# Altium schematic symbol library ToradexMainBoard-V0I1.SCHLIB: 303 symbols (part 11 of 14)
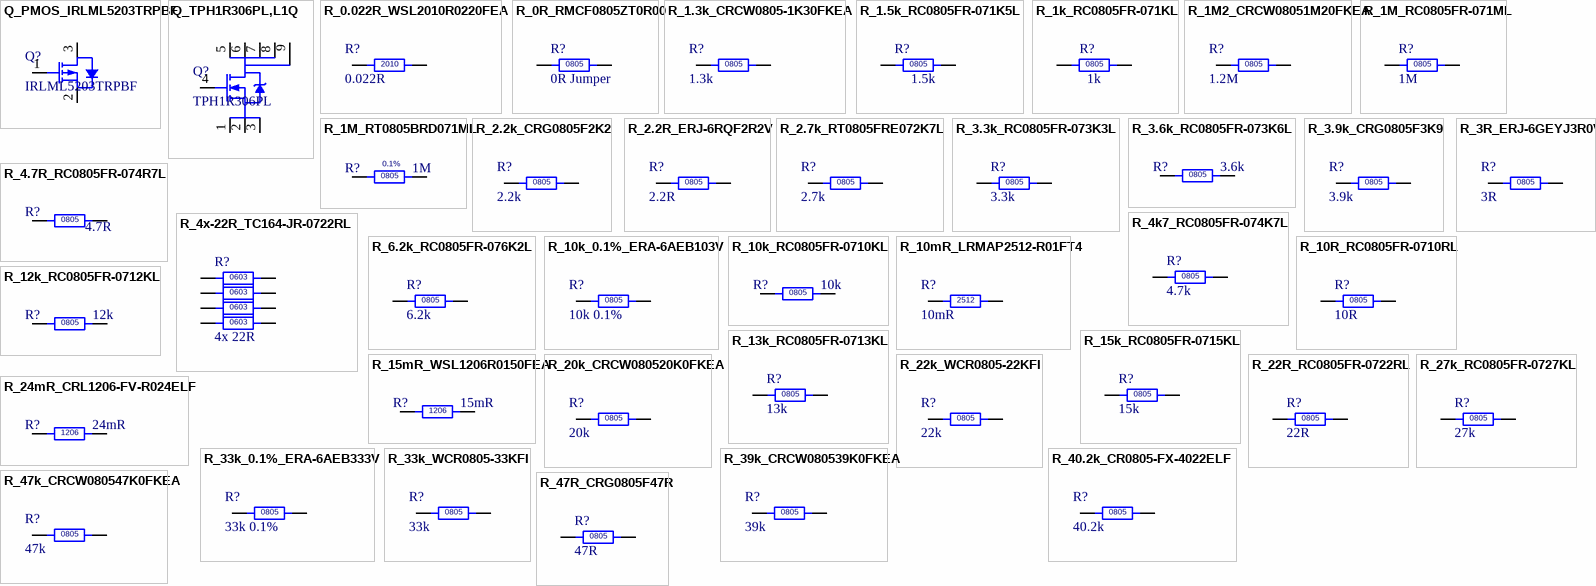
[diagram p25: symbols Q_PMOS_IRLML5203TRPBF to R_47R_CRG0805F47R]

## Q_TPH1R306PL,L1Q
designator Q?, comment TPH1R306PL
X35 Pb-f Power Mosfet Transistor SOP-8-ADV PD=170W F=1MHZ; Manufacturer: Toshiba; Manufacturer Part Number: TPH1R306PL,L1Q; Supplier 1: Digi-Key; RoHS: No; Category: MOSFETs; Stock 1: 54; Pricing 1: 1=1,80000, 10=1,61700, 25=1,52520, 100=1,18950, 250=1,15900, 500=1,00650, 1000=0,85400, 2500=0,84180 (USD); Supplier Part Number 1: 264-TPH1R306PLL1QCT-ND
footprint TPH1R306PL_SOP8 (Toshiba SOP 8 / TPH1R306PL)
pins: 1 S, 2 S, 3 S, 4 G, 5 D, 6 D, 7 D, 8 D, 9 D

## R_0.022R_WSL2010R0220FEA
designator R?, comment 0.022R
Res Metal Strip 2010 0.022 Ohm 1% 1/2W 75ppm/C Molded SMD SMD Embossed Plastic T/R; Manufacturer: Vishay Dale; Manufacturer Part Number: WSL2010R0220FEA; Resistance: 22mR; Power Rating: 500mW; Temperature Coefficient: 75ppm/°C; Supplier 1: Mouser; RoHS: Yes; Category: Chip SMD Resistors; Stock 1: 1942; Mount: Surface Mount; Case/Package: 2010; Case Code (Imperial): 2010; Case Code (Metric): 5025; Contact Plating: Tin,Matte; Min Operating Temperature: -65°C; Max Operating Temperature: 170°C; Resistor Type: Metal Strip; Tolerance: 1%; Packaging: Tape and Reel; Package Quantity: 4000; Termination: SMD/SMT; Length: 5mm; Width: 2.5mm; Height: 0.635mm; Depth: 2.54mm; Radiation Hardening: No; Lead Free: Lead Free; Military Standard: Not; ComponentLink1URL: https://datasheet.ciiva.com/5469/wsl-101914-5469064.pdf?src-supplier=Mouser; ComponentLink1Description: https://datasheet.ciiva.com/5469/wsl-101914-5469064.pdf?src-supplier=Mouser; ComponentLink2URL: https://datasheet.ciiva.com/9028/wsl-9028328.pdf?src-supplier=Avnet; ComponentLink2Description: https://datasheet.ciiva.com/9028/wsl-9028328.pdf?src-supplier=Avnet; Supplier Part Number 1: 71-WSL2010R0220FEA
footprint R2010
pins: 1, 2

## R_0R_RMCF0805ZT0R00
designator R?, comment 0R Jumper
STACKPOLE ELECTRONICS - RMCF0805ZT0R00. - RES THKFLM 0805 0 OHM JUMPER 1/8W 200PPM/ C SMD ROHS COMPLIANT: YES; Resistance: 0mR; Power Rating: 125mW; PCBChecked: initials after Checked; Supplier 1: Digi-Key; Manufacturer Part Number: RMCF0805ZT0R00; RoHS: Yes; Category: Chip SMD Resistors; Mount: Surface Mount; Case/Package: 0805; Case Code (Metric): 2012; Case Code (Imperial): 0805; Contact Plating: Tin,Matte; Min Operating Temperature: -55°C; Max Operating Temperature: 155°C; Packaging: Tape and Reel; Features: Automotive AEC-Q200; Composition: Thick Film; Number of Terminations: 2; Military Standard: Not; Max Power Dissipation: 125mW; Length: 2mm; Height: 0.026inch; Width: 0.049inch; Depth: 1.25mm; Radiation Hardening: No; Lead Free: Lead Free; ComponentLink1URL: https://datasheet.ciiva.com/15193/getdatasheetpartid-360417-15193658.pdf?src-supplier=Verical; ComponentLink1Description: https://datasheet.ciiva.com/15193/getdatasheetpartid-360417-15193658.pdf?src-supplier=Verical; Supplier Part Number 1: RMCF0805ZT0R00CT-ND; Manufacturer: Stackpole Electronics; Stock 1: 361289; IPC7352C: done; SCHChecked: Initials after checked
footprint R0805 (Chip Resistor, 2-Leads, Body 2,00x1,25mm, IPC Medium Density)
pins: 1, 2

## R_1.3k_CRCW0805-1K30FKEA
designator R?, comment 1.3k
Res Thick Film 0805 1.3K Ohm 1% 0.125W(1/8W) ±100ppm/C Molded SMD Automotive Paper T/R; Manufacturer: Vishay; Manufacturer Part Number: CRCW0805-1K30FKEA; Resistance: 1.3kR; Temperature Coefficient: 100ppm/°C; Power Rating: 125mW; Voltage Rating: 150V; Supplier 1: Farnell; RoHS: Yes; Category: Chip SMD Resistors; Mount: Surface Mount; Case/Package: 0805; Number of Pins: 2; Case Code (Metric): 2012; Case Code (Imperial): 0805; Contact Plating: Tin; Weight: 0.000194oz; Min Operating Temperature: -55°C; Max Operating Temperature: 155°C; Tolerance: 1%; Packaging: Tape and Reel; Resistor Type: Thick Film; Termination: SMD/SMT; Number of Terminations: 2; Package Quantity: 10; Voltage Rating (DC): 150V; Max Power Dissipation: 125mW; Features: Automotive AEC-Q200; Length: 2mm; Width: 0.049inch; Height: 0.45mm; Depth: 1.25mm; Radiation Hardening: No; Lead Free: Lead Free; REACH SVHC: Unknown; Military Standard: Not; ComponentLink1URL: https://datasheet.ciiva.com/11810/0900766b80d98b26-11810013.pdf?src-supplier=RSComponents; ComponentLink1Description: https://datasheet.ciiva.com/11810/0900766b80d98b26-11810013.pdf?src-supplier=RSComponents; ComponentLink2URL: https://datasheet.ciiva.com/2525/dcrcwe3-2525908.pdf?src-supplier=Digi-Key; ComponentLink2Description: https://datasheet.ciiva.com/2525/dcrcwe3-2525908.pdf?src-supplier=Digi-Key; ComponentLink3URL: https://datasheet.ciiva.com/2525/dcrcwe3-2525909.pdf?src-supplier=Digi-Key; ComponentLink3Description: https://datasheet.ciiva.com/2525/dcrcwe3-2525909.pdf?src-supplier=Digi-Key; ComponentLink4URL: https://datasheet.ciiva.com/16514/dcrcwe3-16514629.pdf?src-supplier=Avnet+Asia; ComponentLink4Description: https://datasheet.ciiva.com/16514/dcrcwe3-16514629.pdf?src-supplier=Avnet+Asia; ComponentLink5URL: https://datasheet.ciiva.com/2525/dcrcwe3-2525910.pdf?src-supplier=Digi-Key; ComponentLink5Description: https://datasheet.ciiva.com/2525/dcrcwe3-2525910.pdf?src-supplier=Digi-Key; ComponentLink6URL: https://datasheet.ciiva.com/5545/dcrcwe3-109170-5545863.pdf?src-supplier=Mouser; ComponentLink6Description: https://datasheet.ciiva.com/5545/dcrcwe3-109170-5545863.pdf?src-supplier=Mouser; ComponentLink7URL: https://datasheet.ciiva.com/22674/1847332-22674615.pdf?src-supplier=Element14; ComponentLink7Description: https://datasheet.ciiva.com/22674/1847332-22674615.pdf?src-supplier=Element14; ComponentLink8URL: https://datasheet.ciiva.com/7672/1697337-7672600.pdf?src-supplier=Element14; ComponentLink8Description: https://datasheet.ciiva.com/7672/1697337-7672600.pdf?src-supplier=Element14; ComponentLink9URL: https://datasheet.ciiva.com/16396/dcrcwe3-16396104.pdf?src-supplier=Future+Electronics; ComponentLink9Description: https://datasheet.ciiva.com/16396/dcrcwe3-16396104.pdf?src-supplier=Future+Electronics; ComponentLink10URL: https://datasheet.ciiva.com/16787/70201119-16787389.pdf?src-supplier=Allied+Electronics; ComponentLink10Description: https://datasheet.ciiva.com/16787/70201119-16787389.pdf?src-supplier=Allied+Electronics; ComponentLink11URL: https://datasheet.ciiva.com/26312/fld-crcw-e3-data-en-26312925.pdf?src-supplier=Distrelec; ComponentLink11Description: https://datasheet.ciiva.com/26312/fld-crcw-e3-data-en-26312925.pdf?src-supplier=Distrelec; ComponentLink12URL: https://datasheet.ciiva.com/7672/1533075-7672702.pdf?src-supplier=Element14; ComponentLink12Description: https://datasheet.ciiva.com/7672/1533075-7672702.pdf?src-supplier=Element14; ComponentLink13URL: https://datasheet.ciiva.com/8337/dcrcwe3-8337647.pdf?src-supplier=Avnet; ComponentLink13Description: https://datasheet.ciiva.com/8337/dcrcwe3-8337647.pdf?src-supplier=Avnet; Supplier Part Number 1: 2320175
footprint R0805
pins: 1, 2

## R_1.5k_RC0805FR-071K5L
designator R?, comment 1.5k
Res Thick Film 0805 1.5K Ohm 1% 0.125W(1/8W) ±100ppm/C Molded SMD Paper T/R; Manufacturer: Yageo; Manufacturer Part Number: RC0805FR-071K5L; Resistance: 1.5kR; Temperature Coefficient: 100ppm/°C; Power Rating: 125mW; Voltage Rating: 150V; Supplier 1: Digi-Key; RoHS: Yes; Category: Chip SMD Resistors; Stock 1: 1215833; Pricing 1: 1=0,10000, 10=0,04000, 100=0,01630, 1000=0,00731, 2500=0,00635 (USD); Case/Package: 0805; Case Code (Imperial): 0805; Case Code (Metric): 2012; Min Operating Temperature: -55°C; Max Operating Temperature: 155°C; Tolerance: 1%; Packaging: Tape and Reel; Composition: Thick Film; Package Quantity: 5000; Termination: SMD/SMT; Length: 2mm; Height: 0.5mm; Width: 1.25mm; Depth: 1.25mm; REACH SVHC: Unknown; Lead Free: Lead Free; ComponentLink1URL: https://datasheet.ciiva.com/17423/rc0805-17423247.pdf?src-supplier=Future+Electronics; ComponentLink1Description: https://datasheet.ciiva.com/17423/rc0805-17423247.pdf?src-supplier=Future+Electronics; Supplier Part Number 1: 311-1.50KCRCT-ND
footprint R0805 (Chip Resistor, 2-Leads, Body 2,00x1,25mm, IPC Medium Density)
pins: 1, 2

## R_1k_RC0805FR-071KL
designator R?, comment 1k
RESISTOR, 0805 1K 1%, FULL REEL; Product Range:YAGEO - RC Series; Resistance:1kohm; Power Rating:125mW; Resistance Tolerance:± 1%; Resistor Case Style:0805 [2012 Metric]; Resistor Element Material:Thick Film; Temperature Coefficient:± 250ppm/°C; Voltage Rating:150V; Packaging:Tape & Reel; MSL:-; SVHC:No SVHC (16-Dec-2013); External Depth:0.55mm; External Length / Height:2mm; External Width:1.25mm; No. of Pins:2; Operating Temperature Max:155°C; Operating Temperature Min:-55°C; Operating Temperature Range:-55°C to +155°C; Reel Quantity:5000; Resistor Mounting:SMD; Series:RC12H; Temperature Coef; Manufacturer Part Number: RC0805FR-071KL; Manufacturer: Yageo; Temperature Coefficient: 100ppm/°C; Resistance: 1kR; Power Rating: 125mW; Voltage Rating: 150V; PCBChecked: initials after Checked; Supplier 1: Digi-Key; RoHS: Yes; Category: Chip SMD Resistors; Case/Package: 0805; Number of Pins: 2; Case Code (Metric): 2012; Case Code (Imperial): 0805; Min Operating Temperature: -55°C; Max Operating Temperature: 155°C; Tolerance: 1%; Packaging: Tape and Reel; Features: Moisture Resistant; Max Power Dissipation: 125mW; Package Quantity: 1; Voltage Rating (DC): 150V; Composition: Thick Film; Number of Terminations: 2; Termination: SMD/SMT; Military Standard: Not; Length: 0.079inch; Height: 0.024inch; Width: 0.049inch; Depth: 1.25mm; Lead Free: Lead Free; REACH SVHC: Unknown; ComponentLink1URL: https://datasheet.ciiva.com/2456/pyu-r-int-thick-7-2456976.pdf?src-supplier=Digi-Key; ComponentLink1Description: https://datasheet.ciiva.com/2456/pyu-r-int-thick-7-2456976.pdf?src-supplier=Digi-Key; ComponentLink2URL: https://datasheet.ciiva.com/2456/pyu-r-int-thick-7-2456977.pdf?src-supplier=Digi-Key; ComponentLink2Description: https://datasheet.ciiva.com/2456/pyu-r-int-thick-7-2456977.pdf?src-supplier=Digi-Key; ComponentLink3URL: https://datasheet.ciiva.com/7941/1686128-7941719.pdf?src-supplier=Element14; ComponentLink3Description: https://datasheet.ciiva.com/7941/1686128-7941719.pdf?src-supplier=Element14; ComponentLink4URL: https://datasheet.ciiva.com/16850/rc0805-16850409.pdf?src-supplier=Future+Electronics; ComponentLink4Description: https://datasheet.ciiva.com/16850/rc0805-16850409.pdf?src-supplier=Future+Electronics; ComponentLink5URL: https://datasheet.ciiva.com/46385/444164-46385020.pdf?src-supplier=Element14; ComponentLink5Description: https://datasheet.ciiva.com/46385/444164-46385020.pdf?src-supplier=Element14; ComponentLink6URL: https://datasheet.ciiva.com/2456/pyu-r-int-thick-7-2456975.pdf?src-supplier=Digi-Key; ComponentLink6Description: https://datasheet.ciiva.com/2456/pyu-r-int-thick-7-2456975.pdf?src-supplier=Digi-Key; Supplier Part Number 1: 311-1.00KCRCT-ND; Stock 1: 23230285; IPC7352C: done; SCHChecked: Initials after checked
footprint R0805 (Chip Resistor, 2-Leads, Body 2,00x1,25mm, IPC Medium Density)
pins: 1, 2

## R_1M2_CRCW08051M20FKEA
designator R?, comment 1.2M
Res Thick Film 0805 1.2M Ohm 1% 1/8W 100ppm/C Molded SMD SMD Paper T/R; Manufacturer: Vishay; Manufacturer Part Number: CRCW08051M20FKEA; Resistance: 1.2MR; Temperature Coefficient: 100ppm/°C; Voltage Rating: 150V; Power Rating: 125mW; Supplier 1: Farnell; RoHS: Yes; Category: Chip SMD Resistors; Stock 1: 4852; Pricing 1: 10=0,07020, 100=0,02810, 500=0,01960, 1000=0,01100, 2500=0,00860, 5000=0,00610, 25000=0,00540 (EUR); Case/Package: 0805; Number of Pins: 2; Contact Plating: Tin; Weight: 0.000194oz; Case Code (Metric): 2012; Case Code (Imperial): 0805; Min Operating Temperature: -55°C; Max Operating Temperature: 155°C; Resistor Type: Thick Film; Tolerance: 1%; Packaging: Tape and Reel; Package Quantity: 10; Number of Terminations: 2; Termination: SMD/SMT; Max Power Dissipation: 125mW; Voltage Rating (DC): 150V; Features: Automotive AEC-Q200; Length: 2mm; Width: 0.049inch; Height: 0.45mm; Depth: 1.25mm; Radiation Hardening: No; REACH SVHC: Unknown; Military Standard: Not; Lead Free: Lead Free; ComponentLink1URL: https://datasheet.ciiva.com/11818/0900766b80d98b26-11818217.pdf?src-supplier=RSComponents; ComponentLink1Description: https://datasheet.ciiva.com/11818/0900766b80d98b26-11818217.pdf?src-supplier=RSComponents; ComponentLink2URL: https://datasheet.ciiva.com/2495/dcrcwe3-2495986.pdf?src-supplier=Digi-Key; ComponentLink2Description: https://datasheet.ciiva.com/2495/dcrcwe3-2495986.pdf?src-supplier=Digi-Key; ComponentLink3URL: https://datasheet.ciiva.com/2495/dcrcwe3-2495987.pdf?src-supplier=Digi-Key; ComponentLink3Description: https://datasheet.ciiva.com/2495/dcrcwe3-2495987.pdf?src-supplier=Digi-Key; ComponentLink4URL: https://datasheet.ciiva.com/2495/dcrcwe3-2495988.pdf?src-supplier=Digi-Key; ComponentLink4Description: https://datasheet.ciiva.com/2495/dcrcwe3-2495988.pdf?src-supplier=Digi-Key; ComponentLink5URL: https://datasheet.ciiva.com/22708/1697337-22708360.pdf?src-supplier=Element14; ComponentLink5Description: https://datasheet.ciiva.com/22708/1697337-22708360.pdf?src-supplier=Element14; ComponentLink6URL: https://datasheet.ciiva.com/7670/1697337-7670589.pdf?src-supplier=Element14; ComponentLink6Description: https://datasheet.ciiva.com/7670/1697337-7670589.pdf?src-supplier=Element14; ComponentLink7URL: https://datasheet.ciiva.com/7670/1697337-7670590.pdf?src-supplier=Element14; ComponentLink7Description: https://datasheet.ciiva.com/7670/1697337-7670590.pdf?src-supplier=Element14; ComponentLink8URL: https://datasheet.ciiva.com/17204/dcrcwe3-17204094.pdf?src-supplier=Avnet+Europe; ComponentLink8Description: https://datasheet.ciiva.com/17204/dcrcwe3-17204094.pdf?src-supplier=Avnet+Europe; ComponentLink9URL: https://datasheet.ciiva.com/9105/dcrcwe3-9105455.pdf?src-supplier=Avnet; ComponentLink9Description: https://datasheet.ciiva.com/9105/dcrcwe3-9105455.pdf?src-supplier=Avnet; Supplier Part Number 1: 2139128
footprint R0805
pins: 1, 2

## R_1M_RC0805FR-071ML
designator R?, comment 1M
Res Thick Film 0805 1M Ohm 1% 0.125W(1/8W) ±100ppm/C Epoxy SMD T/R; Manufacturer: Yageo; Manufacturer Part Number: RC0805FR-071ML; Temperature Coefficient: 100ppm/°C; Resistance: 1MR; Power Rating: 125mW; Voltage Rating: 150V; RoHS: Yes; Category: Chip SMD Resistors; Case/Package: 0805; Case Code (Metric): 2012; Case Code (Imperial): 0805; Min Operating Temperature: -55°C; Max Operating Temperature: 155°C; Composition: Thick Film; Tolerance: 1%; Packaging: Tape and Reel; Number of Terminations: 2; Termination: SMD/SMT; Military Standard: Not; Max Power Dissipation: 125mW; Features: Moisture Resistant; Package Quantity: 1; Length: 0.079inch; Height: 0.024inch; Width: 0.049inch; Depth: 1.25mm; REACH SVHC: Unknown; Lead Free: Lead Free; ComponentLink1URL: https://datasheet.ciiva.com/2519/pyu-r-int-thick-7-2519712.pdf?src-supplier=Digi-Key; ComponentLink1Description: https://datasheet.ciiva.com/2519/pyu-r-int-thick-7-2519712.pdf?src-supplier=Digi-Key; ComponentLink2URL: https://datasheet.ciiva.com/12666/rc0805-12666975.pdf?src-supplier=Mouser; ComponentLink2Description: https://datasheet.ciiva.com/12666/rc0805-12666975.pdf?src-supplier=Mouser; ComponentLink3URL: https://datasheet.ciiva.com/2519/pyu-r-int-thick-7-2519713.pdf?src-supplier=Digi-Key; ComponentLink3Description: https://datasheet.ciiva.com/2519/pyu-r-int-thick-7-2519713.pdf?src-supplier=Digi-Key; ComponentLink4URL: https://datasheet.ciiva.com/2519/pyu-r-int-thick-7-2519711.pdf?src-supplier=Digi-Key; ComponentLink4Description: https://datasheet.ciiva.com/2519/pyu-r-int-thick-7-2519711.pdf?src-supplier=Digi-Key; ComponentLink5URL: https://datasheet.ciiva.com/17419/rc0805-17419909.pdf?src-supplier=Future+Electronics; ComponentLink5Description: https://datasheet.ciiva.com/17419/rc0805-17419909.pdf?src-supplier=Future+Electronics; Stock 2: 3286221; Pricing 2: 1=0,10000, 10=0,04000, 100=0,01630, 1000=0,00731, 2500=0,00635 (USD); Mount: Surface Mount; Number of Pins: 2; Voltage Rating (DC): 150V; ComponentLink6URL: http://www.farnell.com/datasheets/2167052.pdf?src-supplier=Farnell; ComponentLink6Description: http://www.farnell.com/datasheets/2167052.pdf?src-supplier=Farnell; ComponentLink7URL: http://www.mouser.com/ds/2/447/Yageo_08112016_RC0805-968729.pdf?src-supplier=Mouser; ComponentLink7Description: http://www.mouser.com/ds/2/447/Yageo_08112016_RC0805-968729.pdf?src-supplier=Mouser; ComponentLink8URL: http://www.farnell.com/datasheets/444164.pdf?src-supplier=Element14; ComponentLink8Description: http://www.farnell.com/datasheets/444164.pdf?src-supplier=Element14; ComponentLink9URL: http://www.farnell.com/datasheets/2167052.pdf?src-supplier=Newark; ComponentLink9Description: http://www.farnell.com/datasheets/2167052.pdf?src-supplier=Newark; ComponentLink10URL: http://www.yageo.com/documents/recent/PYu-RC_Group_51_RoHS_L_10.pdf?src-supplier=Digi-Key; ComponentLink10Description: http://www.yageo.com/documents/recent/PYu-RC_Group_51_RoHS_L_10.pdf?src-supplier=Digi-Key; Supplier 1: Digi-Key; Supplier Part Number 1: 311-1.00MCRCT-ND
footprint R0805 (Chip Resistor, 2-Leads, Body 2,00x1,25mm, IPC Medium Density)
pins: 1, 2

## R_1M_RT0805BRD071ML
designator R?, comment 1M
Res Thin Film 0805 1M Ohm 0.1% 0.125W(1/8W) ±25ppm/C Epoxy Pad SMD T/R; Manufacturer: Yageo; Manufacturer Part Number: RT0805BRD071ML; Resistance: 1MR; Power Rating: 125mW; Voltage Rating: 150V; Temperature Coefficient: 25ppm/°C; Supplier 1: Mouser; RoHS: Yes; Category: Chip SMD Resistors; Stock 1: 4533; Pricing 1: 1=0,44000, 10=0,31300, 100=0,12500, 1000=0,05700, 5000=0,04700, 10000=0,04500 (USD); Case/Package: 0805; Weight: 0.000194oz; Case Code (Imperial): 0805; Case Code (Metric): 2012; Min Operating Temperature: -55°C; Max Operating Temperature: 125°C; Tolerance: 0.1%; Packaging: Tape and Reel; Package Quantity: 5000; Composition: Thin Film; Termination: SMD/SMT; Number of Terminations: 2; Military Standard: Not; Max Power Dissipation: 125mW; Voltage Rating (DC): 150V; Features: Moisture Resistant; Length: 2mm; Height: 0.024inch; Width: 1.25mm; Depth: 1.25mm; Lead Free: Lead Free; ComponentLink1URL: https://datasheet.ciiva.com/12836/pyu-rt-1-to-0-05-rohs-l-4-12836442.pdf?src-supplier=Mouser; ComponentLink1Description: https://datasheet.ciiva.com/12836/pyu-rt-1-to-0-05-rohs-l-4-12836442.pdf?src-supplier=Mouser; ComponentLink2URL: https://datasheet.ciiva.com/46635/pyu-rt-1-to-0-05-rohs-l-5-46635036.pdf?src-supplier=Digi-Key; ComponentLink2Description: https://datasheet.ciiva.com/46635/pyu-rt-1-to-0-05-rohs-l-5-46635036.pdf?src-supplier=Digi-Key; ComponentLink3URL: https://datasheet.ciiva.com/2584/pyu-rt-1-to-0-05-rohs-l-4-2584829.pdf?src-supplier=Digi-Key; ComponentLink3Description: https://datasheet.ciiva.com/2584/pyu-rt-1-to-0-05-rohs-l-4-2584829.pdf?src-supplier=Digi-Key; Supplier Part Number 1: 603-RT0805BRD071ML
footprint R0805 (Chip Resistor, 2-Leads, Body 2,00x1,25mm, IPC Medium Density)
pins: 1, 2

## R_2.2k_CRG0805F2K2
designator R?, comment 2.2k
Thick Film Resistors 2.2KOhms 1/8W 150V; Manufacturer: TE Connectivity; Manufacturer Part Number: CRG0805F2K2; Resistance: 2.2kR; Tolerance: 1%; Temperature Coefficient: 100ppm/°C; Power Rating: 125mW; Number of Resistors: 1; Supplier 1: Farnell; RoHS: Yes; Category: Chip SMD Resistors; Stock 1: 75000; Pricing 1: 5000=0,00530, 25000=0,00420 (EUR); Mount: Surface Mount; Case/Package: 0805; Case Code (Imperial): 0805; Case Code (Metric): 2012; Weight: 0.000194oz; Min Operating Temperature: -55°C; Max Operating Temperature: 125°C; Resistor Type: Thick Film; Packaging: Tape and Reel; Package Quantity: 5000; Number of Terminations: 2; Series: CRG; Voltage Rating: 150V; Termination: Solder; Technology: THICK FILM; Length: 2mm; Width: 1.25mm; Height: 0.55mm; Depth: 1.25mm; Radiation Hardening: No; RoHS Compliant: Yes; ELV: Compliant; ComponentLink1URL: https://datasheet.ciiva.com/11809/0900766b800a696e-11809606.pdf?src-supplier=RSComponents; ComponentLink1Description: https://datasheet.ciiva.com/11809/0900766b800a696e-11809606.pdf?src-supplier=RSComponents; ComponentLink2URL: https://datasheet.ciiva.com/5547/eng-ds-1773204-g-5547934.pdf?src-supplier=Mouser; ComponentLink2Description: https://datasheet.ciiva.com/5547/eng-ds-1773204-g-5547934.pdf?src-supplier=Mouser; Supplier Part Number 1: 3133466
footprint R0805
pins: 1, 2

## R_2.2R_ERJ-6RQF2R2V
designator R?, comment 2.2R
RES SMD 2.2 OHM 1% 1/8W 0805; Manufacturer: Panasonic; Manufacturer Part Number: ERJ-6RQF2R2V; Temperature Coefficient: 200ppm/°C; Max Power Dissipation: 125mW; Supplier 1: Mouser; RoHS: Yes; Category: Chip SMD Resistors; Stock 1: 19035; Mount: Surface Mount; Case/Package: 0805; Number of Pins: 2; Case Code (Metric): 2012; Case Code (Imperial): 0805; Contact Plating: Tin; Min Operating Temperature: -55°C; Max Operating Temperature: 125°C; Packaging: Tape and Reel; Tolerance: 1%; Resistor Type: Thick Film; Resistance: 2.2R; Number of Terminations: 2; Power Rating: 125mW; Package Quantity: 5000; Features: Automotive AEC-Q200; Termination: SMD/SMT; Length: 2mm; Width: 0.049inch; Height: 0.6mm; Depth: 1.25mm; Radiation Hardening: No; Lead Free: Lead Free; Military Standard: Not; REACH SVHC: No SVHC; ComponentLink1URL: https://datasheet.ciiva.com/11818/0900766b80eefa12-11818460.pdf?src-supplier=RSComponents; ComponentLink1Description: https://datasheet.ciiva.com/11818/0900766b80eefa12-11818460.pdf?src-supplier=RSComponents; ComponentLink2URL: https://datasheet.ciiva.com/5868/391509-5868213.pdf?src-supplier=Farnell; ComponentLink2Description: https://datasheet.ciiva.com/5868/391509-5868213.pdf?src-supplier=Farnell; ComponentLink3URL: https://datasheet.ciiva.com/5868/391509-5868214.pdf?src-supplier=Farnell; ComponentLink3Description: https://datasheet.ciiva.com/5868/391509-5868214.pdf?src-supplier=Farnell; ComponentLink4URL: https://datasheet.ciiva.com/46436/391509-46436806.pdf?src-supplier=Element14; ComponentLink4Description: https://datasheet.ciiva.com/46436/391509-46436806.pdf?src-supplier=Element14; ComponentLink5URL: https://datasheet.ciiva.com/9197/aoa0000ce3-9197271.pdf?src-supplier=Avnet; ComponentLink5Description: https://datasheet.ciiva.com/9197/aoa0000ce3-9197271.pdf?src-supplier=Avnet; ComponentLink6URL: https://datasheet.ciiva.com/24055/aoa0000ce3-72189-24055615.pdf?src-supplier=Mouser; ComponentLink6Description: https://datasheet.ciiva.com/24055/aoa0000ce3-72189-24055615.pdf?src-supplier=Mouser; Supplier Part Number 1: 667-ERJ-6RQF2R2V
footprint R0805
pins: 1, 2

## R_2.7k_RT0805FRE072K7L
designator R?, comment 2.7k
YAGEO (PHYCOMP)   RT0805FRE072K7L   Surface Mount Chip Resistor, Thin Film, RT Series, 2.7 kohm, 125 mW,  1%, 150 V; Resistance: 2.7kR; Temperature Coefficient: 50ppm/°C; Power Rating: 125mW; Voltage Rating: 150V; Supplier 1: Farnell; Manufacturer: Yageo; Manufacturer Part Number: RT0805FRE072K7L; RoHS: Yes; Category: Chip SMD Resistors; Stock 1: 4023; Pricing 1: 10=0,11500, 100=0,03970, 500=0,03190, 1000=0,02410 (EUR); Case/Package: 0805; Contact Plating: Tin,Matte; Case Code (Metric): 2012; Case Code (Imperial): 0805; Min Operating Temperature: -55°C; Max Operating Temperature: 125°C; Tolerance: 1%; Resistor Type: Thin Film; Package Quantity: 5000; Packaging: Tape and Reel; Number of Terminations: 2; Max Power Dissipation: 125mW; Voltage Rating (DC): 150V; Series: RT; Resistance Tolerance: 1%; Construction: Rectangular; Length: 0.079inch; Width: 0.049inch; Height: 0.024inch; Depth: 1.25mm; Radiation Hardening: No; REACH SVHC: Unknown; Military Standard: Not; Lead Free: Lead Free; RoHS Compliant: Yes; ComponentLink1URL: https://datasheet.ciiva.com/2561/pyu-rt-1-to-0-05-rohs-l-5-2561137.pdf?src-supplier=Digi-Key; ComponentLink1Description: https://datasheet.ciiva.com/2561/pyu-rt-1-to-0-05-rohs-l-5-2561137.pdf?src-supplier=Digi-Key; ComponentLink2URL: https://datasheet.ciiva.com/7942/1392914-7942127.pdf?src-supplier=Element14; ComponentLink2Description: https://datasheet.ciiva.com/7942/1392914-7942127.pdf?src-supplier=Element14; Supplier Part Number 1: 1500699
footprint R0805 (Chip Resistor, 2-Leads, Body 2,00x1,25mm, IPC Medium Density)
pins: 1, 2

## R_3.3k_RC0805FR-073K3L
designator R?, comment 3.3k
Res Thick Film 0805 3.3K Ohm 1% 0.125W(1/8W) ±100ppm/C Epoxy Pad SMD T/R; Manufacturer: Yageo; Manufacturer Part Number: RC0805FR-073K3L; Resistance: 3.3kR; Temperature Coefficient: 100ppm/°C; Power Rating: 125mW; Voltage Rating: 150V; Supplier 1: Digi-Key; RoHS: Yes; Category: Chip SMD Resistors; Stock 1: 73579; Pricing 1: 1=0,10000, 10=0,04000, 100=0,01630, 1000=0,00731, 2500=0,00635 (USD); Case/Package: 0805; Weight: 0.000194oz; Case Code (Metric): 2012; Case Code (Imperial): 0805; Min Operating Temperature: -55°C; Max Operating Temperature: 155°C; Tolerance: 1%; Packaging: Tape and Reel; Composition: Thick Film; Number of Terminations: 2; Termination: SMD/SMT; Package Quantity: 1; Features: Moisture Resistant; Max Power Dissipation: 125mW; Length: 2mm; Height: 0.5mm; Width: 0.049inch; Depth: 1.25mm; Lead Free: Lead Free; REACH SVHC: No SVHC; ComponentLink1URL: https://datasheet.ciiva.com/7941/444164-7941782.pdf?src-supplier=Element14; ComponentLink1Description: https://datasheet.ciiva.com/7941/444164-7941782.pdf?src-supplier=Element14; ComponentLink2URL: https://datasheet.ciiva.com/7941/444164-7941783.pdf?src-supplier=Element14; ComponentLink2Description: https://datasheet.ciiva.com/7941/444164-7941783.pdf?src-supplier=Element14; ComponentLink3URL: https://datasheet.ciiva.com/2457/pyu-r-int-thick-7-2457992.pdf?src-supplier=Digi-Key; ComponentLink3Description: https://datasheet.ciiva.com/2457/pyu-r-int-thick-7-2457992.pdf?src-supplier=Digi-Key; ComponentLink4URL: https://datasheet.ciiva.com/2457/pyu-r-int-thick-7-2457994.pdf?src-supplier=Digi-Key; ComponentLink4Description: https://datasheet.ciiva.com/2457/pyu-r-int-thick-7-2457994.pdf?src-supplier=Digi-Key; ComponentLink5URL: https://datasheet.ciiva.com/16747/rc0805-16747115.pdf?src-supplier=Future+Electronics; ComponentLink5Description: https://datasheet.ciiva.com/16747/rc0805-16747115.pdf?src-supplier=Future+Electronics; ComponentLink6URL: https://datasheet.ciiva.com/46447/444164-46447579.pdf?src-supplier=Element14; ComponentLink6Description: https://datasheet.ciiva.com/46447/444164-46447579.pdf?src-supplier=Element14; ComponentLink7URL: https://datasheet.ciiva.com/2457/pyu-r-int-thick-7-2457993.pdf?src-supplier=Digi-Key; ComponentLink7Description: https://datasheet.ciiva.com/2457/pyu-r-int-thick-7-2457993.pdf?src-supplier=Digi-Key; ComponentLink8URL: https://datasheet.ciiva.com/12577/rc0805-12577341.pdf?src-supplier=Mouser; ComponentLink8Description: https://datasheet.ciiva.com/12577/rc0805-12577341.pdf?src-supplier=Mouser; Supplier Part Number 1: 311-3.30KCRCT-ND
footprint R0805 (Chip Resistor, 2-Leads, Body 2,00x1,25mm, IPC Medium Density)
pins: 1, 2

## R_3.6k_RC0805FR-073K6L
designator R?, comment 3.6k
RES SMD 3.6K OHM 1% 1/8W 0805; Manufacturer: Yageo; Manufacturer Part Number: RC0805FR-073K6L; Resistance: 3.6kR; Power Rating: 125mW; Temperature Coefficient: 100ppm/°C; Voltage Rating: 150V; Supplier 1: Digi-Key; RoHS: Yes; Category: Chip SMD Resistors; Stock 1: 49048; Pricing 1: 1=0,10000, 10=0,04000, 100=0,01630, 1000=0,00731, 2500=0,00635 (USD); Mount: Surface Mount; Case/Package: 0805; Case Code (Metric): 2012; Case Code (Imperial): 0805; Min Operating Temperature: -55°C; Max Operating Temperature: 155°C; Tolerance: 1%; Packaging: Tape and Reel; Composition: Thick Film; Termination: SMD/SMT; Voltage Rating (DC): 150V; Max Power Dissipation: 125mW; Number of Terminations: 2; Military Standard: Not; Package Quantity: 1; Features: Moisture Resistant; Length: 2mm; Height: 0.5mm; Width: 0.049inch; Depth: 1.25mm; Lead Free: Lead Free; ComponentLink1URL: https://datasheet.ciiva.com/11819/0900766b8106beab-11819852.pdf?src-supplier=RSComponents; ComponentLink1Description: https://datasheet.ciiva.com/11819/0900766b8106beab-11819852.pdf?src-supplier=RSComponents; ComponentLink2URL: https://datasheet.ciiva.com/15189/getdatasheetpartid-327996-15189964.pdf?src-supplier=Verical; ComponentLink2Description: https://datasheet.ciiva.com/15189/getdatasheetpartid-327996-15189964.pdf?src-supplier=Verical; ComponentLink3URL: https://datasheet.ciiva.com/2509/pyu-r-int-thick-7-2509501.pdf?src-supplier=Digi-Key; ComponentLink3Description: https://datasheet.ciiva.com/2509/pyu-r-int-thick-7-2509501.pdf?src-supplier=Digi-Key; ComponentLink4URL: https://datasheet.ciiva.com/2509/pyu-r-int-thick-7-2509502.pdf?src-supplier=Digi-Key; ComponentLink4Description: https://datasheet.ciiva.com/2509/pyu-r-int-thick-7-2509502.pdf?src-supplier=Digi-Key; ComponentLink5URL: https://datasheet.ciiva.com/17041/rc0805-17041166.pdf?src-supplier=Future+Electronics; ComponentLink5Description: https://datasheet.ciiva.com/17041/rc0805-17041166.pdf?src-supplier=Future+Electronics; ComponentLink6URL: https://datasheet.ciiva.com/2509/pyu-r-int-thick-7-2509503.pdf?src-supplier=Digi-Key; ComponentLink6Description: https://datasheet.ciiva.com/2509/pyu-r-int-thick-7-2509503.pdf?src-supplier=Digi-Key; Supplier Part Number 1: 311-3.60KCRCT-ND
footprint R0805 (Chip Resistor, 2-Leads, Body 2,00x1,25mm, IPC Medium Density)
pins: 1, 2

## R_3.9k_CRG0805F3K9
designator R?, comment 3.9k
Res Thick Film 0805 3.9K Ohm 1% 0.125W(1/8W) ±100ppm/C Pad SMD T/R; Manufacturer: TE Connectivity; Manufacturer Part Number: CRG0805F3K9; Resistance: 3.9kR; Temperature Coefficient: 100ppm/°C; Power Rating: 125mW; Voltage Rating: 150V; Number of Resistors: 1; Supplier 1: Farnell; RoHS: Yes; Category: Chip SMD Resistors; Stock 1: 45000; Pricing 1: 5000=0,00470, 25000=0,00360 (EUR); Mount: Surface Mount; Case/Package: 0805; Case Code (Imperial): 0805; Case Code (Metric): 2012; Weight: 0.000194oz; Min Operating Temperature: -55°C; Max Operating Temperature: 125°C; Tolerance: 1%; Packaging: Tape and Reel; Resistor Type: Thick Film; Package Quantity: 5000; Number of Terminations: 2; Series: CRG; Termination: Solder; Technology: THICK FILM; Length: 2mm; Width: 1.25mm; Height: 0.55mm; Depth: 1.25mm; RoHS Compliant: Yes; ELV: Compliant; ComponentLink1URL: https://datasheet.ciiva.com/11809/0900766b800a696e-11809949.pdf?src-supplier=RSComponents; ComponentLink1Description: https://datasheet.ciiva.com/11809/0900766b800a696e-11809949.pdf?src-supplier=RSComponents; ComponentLink2URL: https://datasheet.ciiva.com/16756/70063020-16756103.pdf?src-supplier=Allied+Electronics; ComponentLink2Description: https://datasheet.ciiva.com/16756/70063020-16756103.pdf?src-supplier=Allied+Electronics; ComponentLink3URL: https://datasheet.ciiva.com/24357/eng-ds-1773204-e-24357415.pdf?src-supplier=Onlinecomponents.com; ComponentLink3Description: https://datasheet.ciiva.com/24357/eng-ds-1773204-e-24357415.pdf?src-supplier=Onlinecomponents.com; Supplier Part Number 1: 3133470
footprint R0805
pins: 1, 2

## R_3R_ERJ-6GEYJ3R0V
designator R?, comment 3R
Res Thick Film 0805 3 Ohm 5% 1/8W -100ppm/°C to 600ppm/°C Molded SMD Punched Carrier T/R; Manufacturer: Panasonic; Manufacturer Part Number: ERJ-6GEYJ3R0V; Power Rating: 125mW; Voltage Rating: 150V; Supplier 1: Farnell; RoHS: Yes; Category: Chip SMD Resistors; Stock 1: 55299; Pricing 1: 10=0,09070, 100=0,03650, 500=0,02570, 1000=0,01490 (EUR); Mount: Surface Mount; Case/Package: 0805; Case Code (Metric): 2012; Case Code (Imperial): 0805; Contact Plating: Tin; Min Operating Temperature: -55°C; Max Operating Temperature: 155°C; Resistance: 3R; Tolerance: 5%; Packaging: Tape and Reel; Package Quantity: 1; Resistor Type: Thick Film; Temperature Coefficient: 600ppm/°C; Number of Terminations: 2; Max Power Dissipation: 125mW; Voltage Rating (DC): 150V; Series: ERJ; Resistance Tolerance: 5%; Length: 0.079inch; Width: 0.049inch; Height: 0.028inch; REACH SVHC: No SVHC; Lead Free: Lead Free; RoHS Compliant: Yes; ComponentLink1URL: https://datasheet.ciiva.com/8081/aoa0000ce1-8081325.pdf?src-supplier=Element14; ComponentLink1Description: https://datasheet.ciiva.com/8081/aoa0000ce1-8081325.pdf?src-supplier=Element14; ComponentLink2URL: https://datasheet.ciiva.com/9196/aoa0000ce1-9196697.pdf?src-supplier=Avnet; ComponentLink2Description: https://datasheet.ciiva.com/9196/aoa0000ce1-9196697.pdf?src-supplier=Avnet; ComponentLink3URL: https://datasheet.ciiva.com/30174/4aoa0000ce1-30174765.pdf?src-supplier=Onlinecomponents.com; ComponentLink3Description: https://datasheet.ciiva.com/30174/4aoa0000ce1-30174765.pdf?src-supplier=Onlinecomponents.com; Supplier Part Number 1: 2323844
footprint R0805
pins: 1, 2

## R_4.7R_RC0805FR-074R7L
designator R?, comment 4.7R
YAGEO - RC0805FR-074R7L - SMD Chip Resistor, 0805 [2012 Metric], 4.7 ohm, RC Series, 150 V, Thick Film, 125 mW; Power Rating: 125mW; Tolerance: 1%; Temperature Coefficient: 200ppm/°C; Voltage Rating: 150V; Supplier 1: Digi-Key; Manufacturer: Yageo; Manufacturer Part Number: RC0805FR-074R7L; RoHS: Yes; Category: Chip SMD Resistors; Stock 1: 232712; Pricing 1: 1=0,10000, 10=0,07200, 100=0,02770, 1000=0,01219, 2500=0,01053 (USD); Case/Package: 0805; Weight: 0.000194oz; Case Code (Imperial): 0805; Case Code (Metric): 2012; Min Operating Temperature: -55°C; Max Operating Temperature: 155°C; Packaging: Tape and Reel; Resistance: 4.7R; Max Power Dissipation: 125mW; Package Quantity: 1; Termination: SMD/SMT; Composition: Thick Film; Number of Terminations: 2; Military Standard: Not; Features: Moisture Resistant; Length: 2mm; Height: 0.5mm; Width: 1.25mm; Depth: 1.25mm; REACH SVHC: Unknown; Lead Free: Lead Free; ComponentLink1URL: https://datasheet.ciiva.com/11819/0900766b8106beab-11819877.pdf?src-supplier=RSComponents; ComponentLink1Description: https://datasheet.ciiva.com/11819/0900766b8106beab-11819877.pdf?src-supplier=RSComponents; ComponentLink2URL: https://datasheet.ciiva.com/16769/rc0805-16769447.pdf?src-supplier=Future+Electronics; ComponentLink2Description: https://datasheet.ciiva.com/16769/rc0805-16769447.pdf?src-supplier=Future+Electronics; ComponentLink3URL: https://datasheet.ciiva.com/2459/pyu-r-int-thick-7-2459640.pdf?src-supplier=Digi-Key; ComponentLink3Description: https://datasheet.ciiva.com/2459/pyu-r-int-thick-7-2459640.pdf?src-supplier=Digi-Key; ComponentLink4URL: https://datasheet.ciiva.com/2459/pyu-r-int-thick-7-2459641.pdf?src-supplier=Digi-Key; ComponentLink4Description: https://datasheet.ciiva.com/2459/pyu-r-int-thick-7-2459641.pdf?src-supplier=Digi-Key; ComponentLink5URL: https://datasheet.ciiva.com/2459/pyu-r-int-thick-7-2459642.pdf?src-supplier=Digi-Key; ComponentLink5Description: https://datasheet.ciiva.com/2459/pyu-r-int-thick-7-2459642.pdf?src-supplier=Digi-Key; Supplier Part Number 1: 311-4.70CRCT-ND
footprint R0805 (Chip Resistor, 2-Leads, Body 2,00x1,25mm, IPC Medium Density)
pins: 1, 2

## R_4k7_RC0805FR-074K7L
designator R?, comment 4.7k
YAGEO (PHYCOMP)         RC0805FR-074K7L             SMD Chip Resistor, Thick Film, 4.7 kohm, 150 V, 0805 [2012 Metric], 250 mW,  1%; Resistance: 4.7kR; Temperature Coefficient: 100ppm/°C; Voltage Rating (DC): 150V; Power Rating: 125mW; PCBChecked: initials after Checked; Supplier 1: Digi-Key; Manufacturer Part Number: RC0805FR-074K7L; RoHS: Yes; Category: Chip SMD Resistors; Case/Package: 0805; Number of Pins: 2; Case Code (Metric): 2012; Case Code (Imperial): 0805; Min Operating Temperature: -55°C; Max Operating Temperature: 155°C; Packaging: Tape and Reel; Tolerance: 1%; Composition: Thick Film; Voltage Rating: 150V; Number of Terminations: 2; Termination: SMD/SMT; Military Standard: Not; Package Quantity: 5000; Max Power Dissipation: 125mW; Features: Moisture Resistant; Length: 0.079inch; Height: 0.024inch; Width: 0.049inch; Depth: 1.25mm; REACH SVHC: No SVHC; Lead Free: Lead Free; ComponentLink1URL: https://datasheet.ciiva.com/11808/0900766b8106beab-11808155.pdf?src-supplier=RSComponents; ComponentLink1Description: https://datasheet.ciiva.com/11808/0900766b8106beab-11808155.pdf?src-supplier=RSComponents; ComponentLink2URL: https://datasheet.ciiva.com/7941/444164-7941804.pdf?src-supplier=Element14; ComponentLink2Description: https://datasheet.ciiva.com/7941/444164-7941804.pdf?src-supplier=Element14; ComponentLink3URL: https://datasheet.ciiva.com/7941/1686128-7941805.pdf?src-supplier=Element14; ComponentLink3Description: https://datasheet.ciiva.com/7941/1686128-7941805.pdf?src-supplier=Element14; ComponentLink4URL: https://datasheet.ciiva.com/7941/444164-7941806.pdf?src-supplier=Element14; ComponentLink4Description: https://datasheet.ciiva.com/7941/444164-7941806.pdf?src-supplier=Element14; ComponentLink5URL: https://datasheet.ciiva.com/6547/pyu-r-int-thick-7-6547263.pdf?src-supplier=Digi-Key; ComponentLink5Description: https://datasheet.ciiva.com/6547/pyu-r-int-thick-7-6547263.pdf?src-supplier=Digi-Key; ComponentLink6URL: https://datasheet.ciiva.com/46447/444164-46447583.pdf?src-supplier=Element14; ComponentLink6Description: https://datasheet.ciiva.com/46447/444164-46447583.pdf?src-supplier=Element14; Supplier Part Number 1: 311-4.70KCRDKR-ND; Manufacturer: Yageo; Stock 1: 4169266; IPC7352C: done; SCHChecked: Initials after checked
footprint R0805 (Chip Resistor, 2-Leads, Body 2,00x1,25mm, IPC Medium Density)
pins: 1, 2

## R_4x-22R_TC164-JR-0722RL
designator R?, comment 4x 22R
YAGEO - TC164-JR-0722RL - Widerstandsnetzwerk, fester Wert, 22 ohm, Baureihe TC164, 4 Element(e), Isoliert; Tolerance: 5%; Voltage Rating: 50V; Number of Elements: 4; Number of Contacts: 8; Circuit Type: Isolated; Power Per Element: 62.5mW; Temperature Coefficient: 200ppm/°C; Supplier 1: Farnell; Manufacturer: Yageo; Manufacturer Part Number: TC164-JR-0722RL; RoHS: Yes; Category: Resistor Arrays; Stock 1: 19198; Pricing 1: 10=0,09190, 100=0,04750, 500=0,03060, 1000=0,02160, 2500=0,02060 (EUR); Mount: Surface Mount; Case/Package: 0603; Number of Pins: 8; Case Code (Imperial): 1206; Case Code (Metric): 3216; Number of Terminals: 8; Min Operating Temperature: -55°C; Max Operating Temperature: 155°C; Packaging: Tape and Reel; Resistance: 22R; Package Quantity: 1; Number of Circuits: 4; Number of Resistors: 4; Military Standard: Not; Termination: Concave; Power Dissipation: 62.5mW; Working Voltage: 50V; Length: 0.126inch; Height: 0.028inch; Width: 0.063inch; Terminal Pitch: 0.8mm; Depth: 1.6mm; Radiation Hardening: No; REACH SVHC: Unknown; Lead Free: Lead Free; ComponentLink1URL: https://datasheet.ciiva.com/23782/38723-23782768.pdf?src-supplier=Newark; ComponentLink1Description: https://datasheet.ciiva.com/23782/38723-23782768.pdf?src-supplier=Newark; ComponentLink2URL: https://datasheet.ciiva.com/2688/pyu-yc-tc164-51-rohs-l-3-2688584.pdf?src-supplier=Digi-Key; ComponentLink2Description: https://datasheet.ciiva.com/2688/pyu-yc-tc164-51-rohs-l-3-2688584.pdf?src-supplier=Digi-Key; ComponentLink3URL: https://datasheet.ciiva.com/2688/pyu-yc-tc164-51-rohs-l-3-2688585.pdf?src-supplier=Digi-Key; ComponentLink3Description: https://datasheet.ciiva.com/2688/pyu-yc-tc164-51-rohs-l-3-2688585.pdf?src-supplier=Digi-Key; ComponentLink4URL: https://datasheet.ciiva.com/2688/pyu-yc-tc164-51-rohs-l-3-2688586.pdf?src-supplier=Digi-Key; ComponentLink4Description: https://datasheet.ciiva.com/2688/pyu-yc-tc164-51-rohs-l-3-2688586.pdf?src-supplier=Digi-Key; ComponentLink5URL: https://datasheet.ciiva.com/28379/pyu-yc-tc164-51-rohs-l-3-28379276.pdf?src-supplier=Avnet+Europe; ComponentLink5Description: https://datasheet.ciiva.com/28379/pyu-yc-tc164-51-rohs-l-3-28379276.pdf?src-supplier=Avnet+Europe; ComponentLink6URL: https://datasheet.ciiva.com/8320/pyu-yc-tc164-51-rohs-l-3-8320207.pdf?src-supplier=Avnet; ComponentLink6Description: https://datasheet.ciiva.com/8320/pyu-yc-tc164-51-rohs-l-3-8320207.pdf?src-supplier=Avnet; ComponentLink7URL: https://datasheet.ciiva.com/17016/pyu-yc-tc164-51-rohs-l-3-17016735.pdf?src-supplier=Future+Electronics; ComponentLink7Description: https://datasheet.ciiva.com/17016/pyu-yc-tc164-51-rohs-l-3-17016735.pdf?src-supplier=Future+Electronics; Supplier Part Number 1: 9241159
footprint R_4x-22R-ARRAY (Resistor Array 0.8mm)
pins: 1, 2, 3, 4, 5, 6, 7, 8

## R_6.2k_RC0805FR-076K2L
designator R?, comment 6.2k
Res Thick Film 0805 6.2K Ohm 1% 0.125W(1/8W) ±100ppm/C Epoxy Pad SMD T/R; Manufacturer: Yageo Phycomp; Manufacturer Part Number: RC0805FR-076K2L; Voltage Rating (DC): 150V; Resistance: 6.2kR; Temperature Coefficient: 100ppm/°C; Power Rating: 125mW; Supplier 1: Digi-Key; RoHS: Yes; Category: Chip SMD Resistors; Stock 1: 164024; Pricing 1: 1=0,10000, 10=0,04000, 100=0,01630, 1000=0,00731, 2500=0,00635 (USD); Mount: Surface Mount; Case/Package: 0805; Min Operating Temperature: -55°C; Max Operating Temperature: 155°C; Packaging: Tape and Reel; Tolerance: 1%; Length: 2mm; Height: 0.5mm; Width: 1.25mm; Depth: 1.25mm; Lead Free: Lead Free; ComponentLink1URL: http://www.yageo.com/documents/recent/PYu-RC_Group_51_RoHS_L_9.pdf?src-supplier=Digi-Key; ComponentLink1Description: http://www.yageo.com/documents/recent/PYu-RC_Group_51_RoHS_L_9.pdf?src-supplier=Digi-Key; Supplier Part Number 1: 311-6.20KCRCT-ND
footprint R0805 (Chip Resistor, 2-Leads, Body 2,00x1,25mm, IPC Medium Density)
pins: 1, 2

## R_10k_0.1%_ERA-6AEB103V
designator R?, comment 10k 0.1%
RESISTOR, 0805, 10K, FULL REEL; Manufacturer: Panasonic; Manufacturer Part Number: ERA-6AEB103V; Resistance: 10kR; Temperature Coefficient: 25ppm/°C; Voltage Rating: 100V; Power Rating: 125mW; Supplier 1: Farnell; RoHS: Yes; Category: Chip SMD Resistors; Stock 1: 60000; Pricing 1: 5000=0,03830, 25000=0,03170 (EUR); Mount: Surface Mount; Case/Package: 0805; Number of Pins: 2; Contact Plating: Tin; Case Code (Metric): 2012; Case Code (Imperial): 0805; Min Operating Temperature: -55°C; Max Operating Temperature: 155°C; Tolerance: 0.1%; Resistor Type: Thin Film,Metal Film; Packaging: Tape and Reel; Package Quantity: 5000; Number of Terminations: 2; Termination: SMD/SMT; Max Power Dissipation: 125mW; Voltage Rating (DC): 100V; Working Voltage: 100V; Length: 2mm; Width: 1.25mm; Height: 0.5mm; Depth: 1.25mm; Radiation Hardening: No; REACH SVHC: No SVHC; Military Standard: Not; Lead Free: Lead Free; ComponentLink1URL: https://datasheet.ciiva.com/11810/0900766b80beefcc-11810466.pdf?src-supplier=RSComponents; ComponentLink1Description: https://datasheet.ciiva.com/11810/0900766b80beefcc-11810466.pdf?src-supplier=RSComponents; ComponentLink2URL: https://datasheet.ciiva.com/26335/453339-da-01-en-widerstand-0805-era-26335701.pdf?src-supplier=Conrad; ComponentLink2Description: https://datasheet.ciiva.com/26335/453339-da-01-en-widerstand-0805-era-26335701.pdf?src-supplier=Conrad; ComponentLink3URL: https://datasheet.ciiva.com/43455/485442-43455269.pdf?src-supplier=Farnell; ComponentLink3Description: https://datasheet.ciiva.com/43455/485442-43455269.pdf?src-supplier=Farnell; ComponentLink4URL: https://datasheet.ciiva.com/28513/485442-28513862.pdf?src-supplier=Element14; ComponentLink4Description: https://datasheet.ciiva.com/28513/485442-28513862.pdf?src-supplier=Element14; ComponentLink5URL: https://datasheet.ciiva.com/24072/aoa0000ce26-197354-24072839.pdf?src-supplier=Mouser; ComponentLink5Description: https://datasheet.ciiva.com/24072/aoa0000ce26-197354-24072839.pdf?src-supplier=Mouser; ComponentLink6URL: https://datasheet.ciiva.com/48529/era-eng-tds-48529783.pdf?src-supplier=Distrelec; ComponentLink6Description: https://datasheet.ciiva.com/48529/era-eng-tds-48529783.pdf?src-supplier=Distrelec; ComponentLink7URL: https://datasheet.ciiva.com/48531/aoa0000ce26-48531095.pdf?src-supplier=Avnet; ComponentLink7Description: https://datasheet.ciiva.com/48531/aoa0000ce26-48531095.pdf?src-supplier=Avnet; ComponentLink8URL: https://datasheet.ciiva.com/16200/aoa0000ce26-16200216.pdf?src-supplier=Future+Electronics; ComponentLink8Description: https://datasheet.ciiva.com/16200/aoa0000ce26-16200216.pdf?src-supplier=Future+Electronics; ComponentLink9URL: https://datasheet.ciiva.com/16776/70068849-16776328.pdf?src-supplier=Allied+Electronics; ComponentLink9Description: https://datasheet.ciiva.com/16776/70068849-16776328.pdf?src-supplier=Allied+Electronics; ComponentLink10URL: https://datasheet.ciiva.com/16762/70068849-16762828.pdf?src-supplier=Allied+Electronics; ComponentLink10Description: https://datasheet.ciiva.com/16762/70068849-16762828.pdf?src-supplier=Allied+Electronics; ComponentLink11URL: https://datasheet.ciiva.com/7830/485442-7830637.pdf?src-supplier=Element14; ComponentLink11Description: https://datasheet.ciiva.com/7830/485442-7830637.pdf?src-supplier=Element14; ComponentLink12URL: https://datasheet.ciiva.com/7830/485442-7830638.pdf?src-supplier=Element14; ComponentLink12Description: https://datasheet.ciiva.com/7830/485442-7830638.pdf?src-supplier=Element14; ComponentLink13URL: https://datasheet.ciiva.com/7830/485442-7830639.pdf?src-supplier=Element14; ComponentLink13Description: https://datasheet.ciiva.com/7830/485442-7830639.pdf?src-supplier=Element14; ComponentLink14URL: https://datasheet.ciiva.com/22785/485442-22785935.pdf?src-supplier=Farnell; ComponentLink14Description: https://datasheet.ciiva.com/22785/485442-22785935.pdf?src-supplier=Farnell; Supplier Part Number 1: 1811404
footprint R0805
pins: 1, 2

## R_10k_RC0805FR-0710KL
designator R?, comment 10k
RES SMD 10K OHM 1% 1/8W 0805; Manufacturer Part Number: RC0805FR-0710KL; Manufacturer: Yageo; Temperature Coefficient: 100ppm/°C; Resistance: 10kR; Power Rating: 125mW; Voltage Rating: 150V; PCBChecked: initials after Checked; Supplier 1: Digi-Key; RoHS: Yes; Category: Chip SMD Resistors; Case/Package: 0805; Case Code (Imperial): 0805; Case Code (Metric): 2012; Min Operating Temperature: -55°C; Max Operating Temperature: 155°C; Packaging: Tape and Reel; Tolerance: 1%; Composition: Thick Film; Features: Moisture Resistant; Termination: SMD/SMT; Number of Terminations: 2; Military Standard: Not; Max Power Dissipation: 125mW; Package Quantity: 1; Length: 2mm; Height: 0.024inch; Width: 0.049inch; Depth: 1.25mm; Lead Free: Lead Free; REACH SVHC: Unknown; ComponentLink1URL: https://datasheet.ciiva.com/11808/0900766b8106beab-11808151.pdf?src-supplier=RSComponents; ComponentLink1Description: https://datasheet.ciiva.com/11808/0900766b8106beab-11808151.pdf?src-supplier=RSComponents; ComponentLink2URL: https://datasheet.ciiva.com/12669/rc0805-12669688.pdf?src-supplier=Mouser; ComponentLink2Description: https://datasheet.ciiva.com/12669/rc0805-12669688.pdf?src-supplier=Mouser; ComponentLink3URL: https://datasheet.ciiva.com/2456/pyu-r-int-thick-7-2456973.pdf?src-supplier=Digi-Key; ComponentLink3Description: https://datasheet.ciiva.com/2456/pyu-r-int-thick-7-2456973.pdf?src-supplier=Digi-Key; ComponentLink4URL: https://datasheet.ciiva.com/16747/rc0805-16747087.pdf?src-supplier=Future+Electronics; ComponentLink4Description: https://datasheet.ciiva.com/16747/rc0805-16747087.pdf?src-supplier=Future+Electronics; ComponentLink5URL: https://datasheet.ciiva.com/46447/444164-46447563.pdf?src-supplier=Element14; ComponentLink5Description: https://datasheet.ciiva.com/46447/444164-46447563.pdf?src-supplier=Element14; ComponentLink6URL: https://datasheet.ciiva.com/2456/pyu-r-int-thick-7-2456972.pdf?src-supplier=Digi-Key; ComponentLink6Description: https://datasheet.ciiva.com/2456/pyu-r-int-thick-7-2456972.pdf?src-supplier=Digi-Key; ComponentLink7URL: https://datasheet.ciiva.com/2456/pyu-r-int-thick-7-2456974.pdf?src-supplier=Digi-Key; ComponentLink7Description: https://datasheet.ciiva.com/2456/pyu-r-int-thick-7-2456974.pdf?src-supplier=Digi-Key; Supplier Part Number 1: 311-10.0KCRCT-ND; Stock 1: 31284302; IPC7352C: done; SCHChecked: Initials after checked
footprint R0805 (Chip Resistor, 2-Leads, Body 2,00x1,25mm, IPC Medium Density)
pins: 1, 2

## R_10mR_LRMAP2512-R01FT4
designator R?, comment 10mR
Product Range:LRMA Series; Resistance:0.01ohm; Power Rating:3W; Resistance Tolerance: 1%; Resistor Case Style:2512 [6432 Metric]; Packaging:Cut Tape; Resistor Element Type:Metal Alloy; Temperature Coefficient: 100ppm/ C ;RoHS Compliant: Yes; Manufacturer: TT Welwyn; Manufacturer Part Number: LRMAP2512-R01FT4; Power Rating: 3W; Temperature Coefficient: 100ppm/°C; Supplier 1: Mouser; RoHS: Yes; Category: Chip SMD Resistors; Case/Package: 2512; Case Code (Metric): 6432; Case Code (Imperial): 2512; Min Operating Temperature: -55°C; Max Operating Temperature: 170°C; Package Quantity: 4000; Packaging: Tape and Reel; Resistance: 10mR; Tolerance: 1%; Resistor Type: Metal Alloy; Number of Terminations: 2; Termination: SMD/SMT; Max Power Dissipation: 3W; Features: Automotive AEC-Q200; Series: LRMA; Length: 0.252inch; Width: 0.126inch; Height: 0.035inch; REACH SVHC: No SVHC; Lead Free: Lead Free; RoHS Compliant: Yes; ComponentLink1URL: https://datasheet.ciiva.com/14982/lrma-14982154.pdf?src-supplier=Digi-Key; ComponentLink1Description: https://datasheet.ciiva.com/14982/lrma-14982154.pdf?src-supplier=Digi-Key; ComponentLink2URL: https://datasheet.ciiva.com/14982/lrma-14982155.pdf?src-supplier=Digi-Key; ComponentLink2Description: https://datasheet.ciiva.com/14982/lrma-14982155.pdf?src-supplier=Digi-Key; ComponentLink3URL: https://datasheet.ciiva.com/14982/lrma-14982153.pdf?src-supplier=Digi-Key; ComponentLink3Description: https://datasheet.ciiva.com/14982/lrma-14982153.pdf?src-supplier=Digi-Key; ComponentLink4URL: https://datasheet.ciiva.com/7932/1518406-7932012.pdf?src-supplier=Element14; ComponentLink4Description: https://datasheet.ciiva.com/7932/1518406-7932012.pdf?src-supplier=Element14; Supplier Part Number 1: 756-LRMAP2512R01FT4
footprint R2512
pins: 1, 2